# Altium schematic symbol library sch.SCHLIB: 31 symbols
Pins are listed as number, name and electrical type; pins without a type are passive.

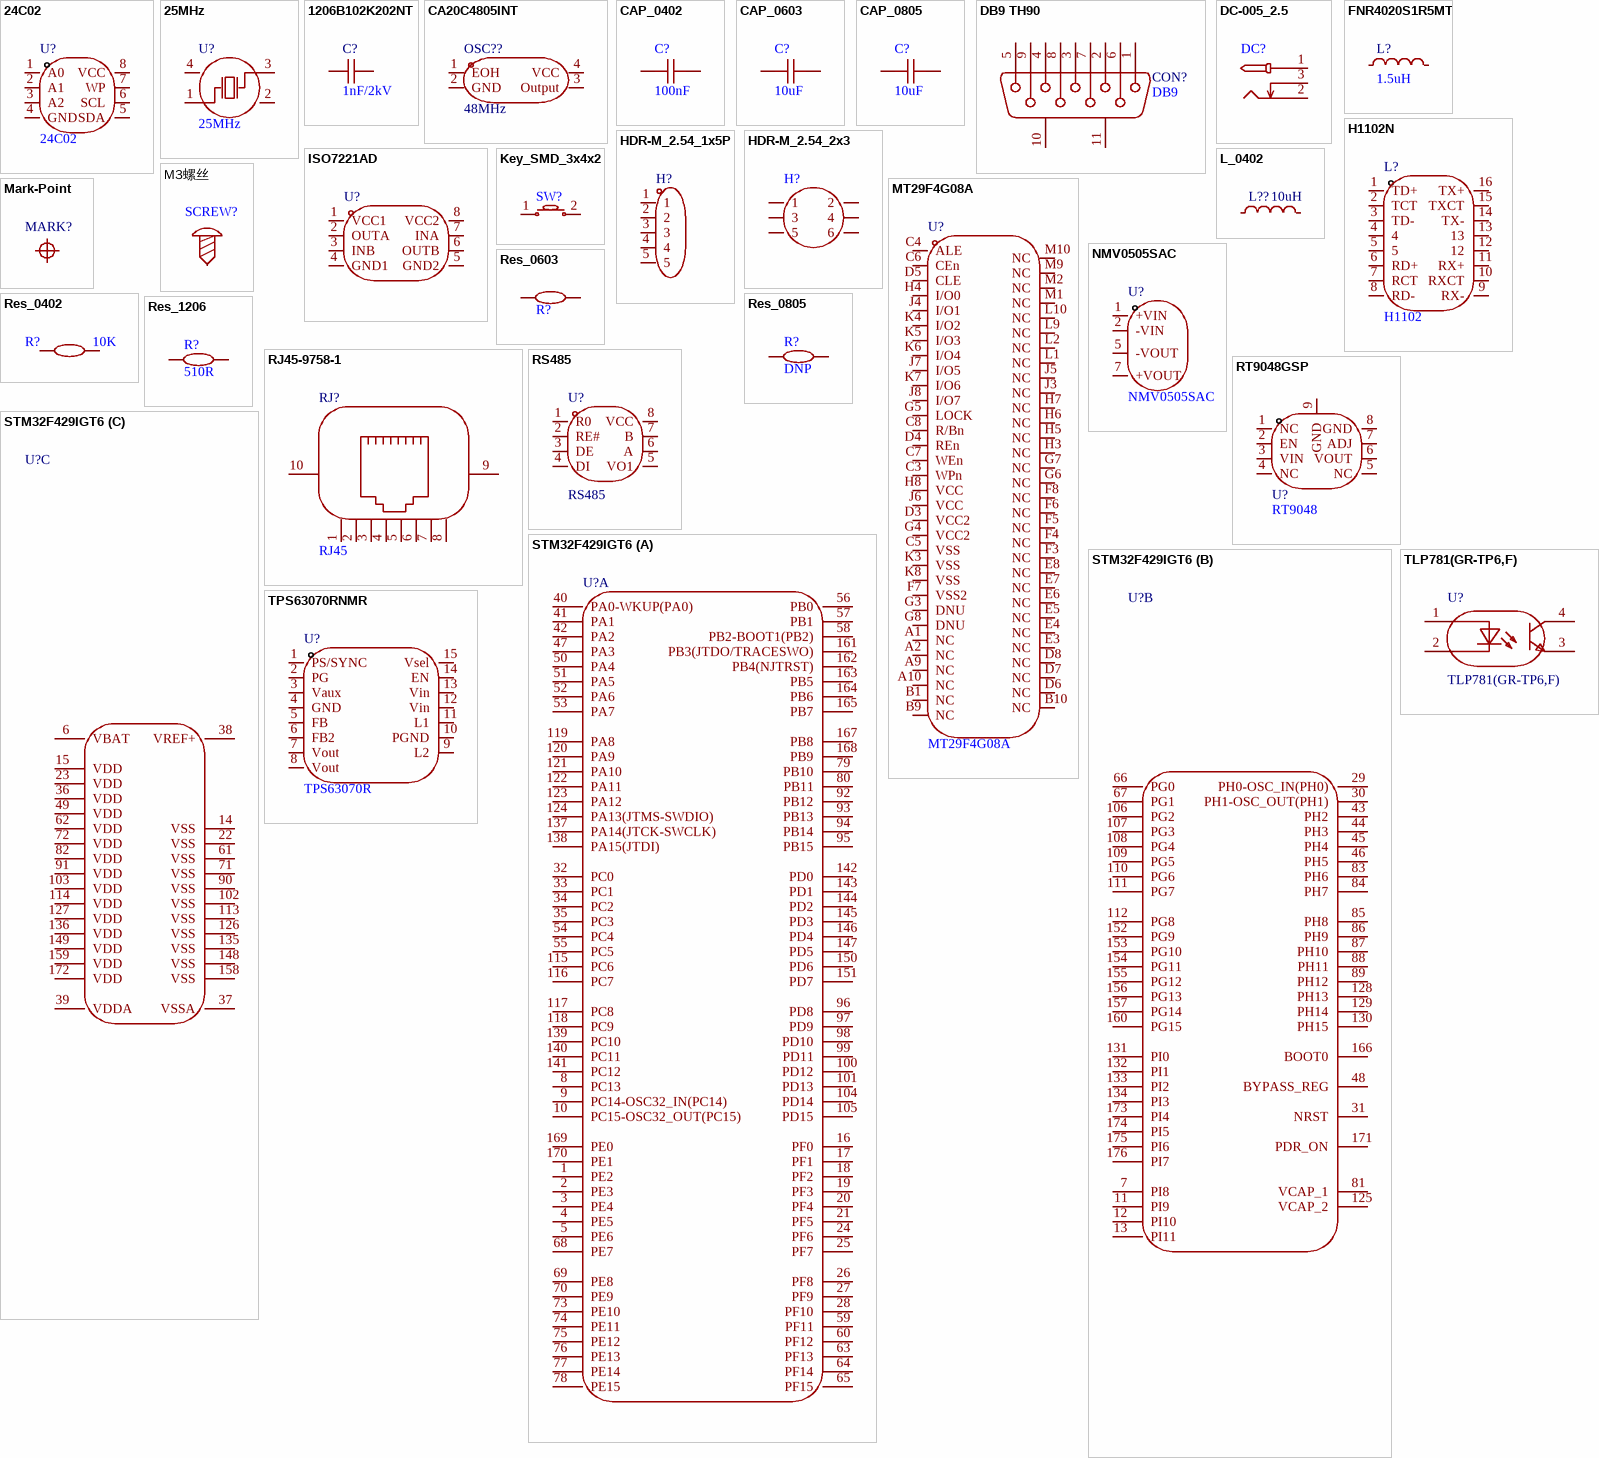
[diagram p0: symbols 24C02 to TPS63070RNMR]

## 24C02
designator U?
Add into BOM: yes; Symbol: 24C02; Device: 24C02; Manufacturer Part: 24C02; Convert to PCB: yes
footprint SOP-8_L4.9-W3.9-P1.27-LS6.0-BL
pins: 1 A0, 2 A1, 3 A2, 4 GND, 5 SDA, 6 SCL, 7 WP, 8 VCC

## 25MHz
designator U?
Add into BOM: yes; Symbol: 25MHZ; Device: 25MHz; Manufacturer Part: 25MHz; Convert to PCB: yes
footprint CRYSTAL-SMD_4P-L3.2-W2.5-TR
pins: 1 OSC1, 2 GND, 3 OSC2, 4 GND

## 1206B102K202NT
designator C?, comment 1nF/2kV
Symbol: 1206B102K202NT; Add into BOM: yes; Device: 1206B102K202NT; Convert to PCB: yes; Value: 1nF/2kV
footprint C1206
pins: 1, 2

## CA20C4805INT
designator OSC??, comment 48MHz
Symbol: CA20C4805INT; Add into BOM: yes; Device: CA20C4805INT; Manufacturer Part: CA20C4805INT; Convert to PCB: yes; Value: 48MHz
footprint OSC-SMD_4P-L2.0-W1.6-BL
pins: 1 EOH, 2 GND, 3 Output, 4 VCC

## CAP_0402
designator C?, comment 100nF
Symbol: CapAcitance; Device: CAP_0402; Convert to PCB: yes; Add into BOM: yes; Value: 100nF
footprint C0402
pins: 1, 2

## CAP_0603
designator C?, comment 10uF
Symbol: CapAcitance; Device: CAP_0603; Convert to PCB: yes; Add into BOM: yes; Value: 10uF
footprint C0603
pins: 1, 2

## CAP_0805
designator C?, comment 10uF
Symbol: CapAcitance; Device: CAP_0805; Convert to PCB: yes; Add into BOM: yes; Value: 10uF
footprint C0805
pins: 1, 2

## DB9 TH90
designator CON?, comment DB9
Symbol: DB9 TH90; Add into BOM: yes; Device: DB9 TH90; Manufacturer Part: DB9; Convert to PCB: yes
footprint DB9-TH_DT10121-M5N3-4F
pins: 1, 2, 3, 4, 5, 6, 7, 8, 9, 10 MH1, 11 MH2

## DC-005_2.5
designator DC?
Symbol: DC-005_2.5; Convert to PCB: yes; Device: DC-005_2.5; Add into BOM: yes
footprint DC-005_2.5
pins: 1 4, 2, 3

## FNR4020S1R5MT
designator L?, comment 1.5uH
Symbol: FNR4020S1R5MT; Add into BOM: yes; Device: FNR4020S1R5MT; Convert to PCB: yes; Value: 1.5uH
footprint IND-SMD_L4.0-W4.0_FNR40XXS
pins: 1, 2

## H1102N
designator L?, comment H1102
Symbol: H1102N; Add into BOM: yes; Device: H1102N; Convert to PCB: yes; Value: H1102
footprint XFMR-SMD_H1102N
pins: 1 TD+, 2 TCT, 3 TD-, 4, 5, 6 RD+, 7 RCT, 8 RD-, 9 RX-, 10 RXCT, 11 RX+, 12, 13, 14 TX-, 15 TXCT, 16 TX+

## HDR-M_2.54_1x5P
designator H?
Symbol: MTP125-1105S1; Device: HDR-M_2.54_1x5P; Convert to PCB: yes; Add into BOM: yes
footprint HDR-TH_5P-P2.54-V-M
pins: 1, 2, 3, 4, 5

## HDR-M_2.54_2x3
designator H?
Symbol: HDR-M-2.54_2x3; Device: HDR-M_2.54_2x3; Convert to PCB: yes; Add into BOM: yes
footprint HDR-TH_6P-P2.54-V-R2-C3-S2.54_A2541WV-2X3P
pins: 1, 2, 3, 4, 5, 6

## ISO7221AD
designator U?
Symbol: ISO7221AD; Add into BOM: yes; Device: ISO7221AD; Convert to PCB: yes
footprint SOIC-8_L5.0-W4.0-P1.27-LS6.0-BL
pins: 1 VCC1, 2 OUTA, 3 INB, 4 GND1, 5 GND2, 6 OUTB, 7 INA, 8 VCC2

## Key_SMD_3x4x2
designator SW?
Symbol: 轻触按键x2; Device: Key_SMD_3x4x2; Convert to PCB: yes; Add into BOM: yes
footprint Key_SMD_3x4x2
pins: 1, 2

## L_0402
designator L??, comment 10uH
Symbol: SDCL1005C10NJTDFM01; Device: L_0402; Add into BOM: yes; Convert to PCB: yes; Value: 10uH
footprint L0402
pins: 1, 2

## M3螺丝
designator SCREW?
Symbol: 螺丝孔; Device: M3螺丝; Convert to PCB: yes; Add into BOM: yes
footprint M3螺丝
pins: 1

## Mark-Point
designator MARK?
Symbol: Mark-Point; Add into BOM: no; Convert to PCB: yes; Device: Mark-Point
footprint Mark-Point-1mm
pins: 1

## MT29F4G08A
designator U?
Add into BOM: yes; Symbol: MT29F4G08A; Device: MT29F4G08A; Manufacturer Part: MT29F4G08A; Convert to PCB: yes
footprint VFBGA-63_L11.0-W9.0-P0.80-BL_MT29F2G08ABAEAH4-IT-E
pins: A1 NC, A2 NC, A9 NC, A10 NC, B1 NC, B9 NC, B10 NC, C3 WPn, C4 ALE, C5 VSS, C6 CEn, C7 WEn, C8 R/Bn, D3 VCC2, D4 REn, D5 CLE, D6 NC, D7 NC, D8 NC, E3 NC, E4 NC, E5 NC, E6 NC, E7 NC, E8 NC, F3 NC, F4 NC, F5 NC, F6 NC, F7 VSS2, F8 NC, G3 DNU, G4 VCC2, G5 LOCK, G6 NC, G7 NC, G8 DNU, H3 NC, H4 I/O0, H5 NC, H6 NC, H7 NC, H8 VCC, J3 NC, J4 I/O1, J5 NC, J6 VCC, J7 I/O5, J8 I/O7, K3 VSS, K4 I/O2, K5 I/O3, K6 I/O4, K7 I/O6, K8 VSS, L1 NC, L2 NC, L9 NC, L10 NC, M1 NC, M2 NC, M9 NC, M10 NC

## NMV0505SAC
designator U?
Add into BOM: yes; Symbol: NMV0505SAC; Device: NMV0505SAC; Manufacturer Part: NMV0505SAC; Convert to PCB: yes
footprint PWRM-TH_4P-L19.5-W6.0-P2.54_NMV0505SAC
pins: 1 +VIN, 2 -VIN, 5 -VOUT, 7 +VOUT

## Res_0402
designator R?, comment 10K
Symbol: 电阻; Device: Res_0402; Convert to PCB: yes; Add into BOM: yes; Value: 10K
footprint R0402
pins: 1, 2

## Res_0603
designator R?, comment 10K  (value not drawn)
Symbol: 电阻; Device: Res_0603; Convert to PCB: yes; Add into BOM: yes; Value: 10K
footprint R0603
pins: 1, 2

## Res_0805
designator R?, comment DNP
Symbol: 电阻; Device: Res_0805; Convert to PCB: yes; Add into BOM: yes; Value: DNP
footprint R0805
pins: 1, 2

## Res_1206
designator R?, comment 510R
Symbol: 电阻; Device: Res_1206; Add into BOM: yes; Convert to PCB: yes; Value: 510R
footprint R1206
pins: 1, 2

## RJ45-9758-1
designator RJ?, comment RJ45
Symbol: RJ45-9758-1; Add into BOM: yes; Device: RJ45-9758-1; Manufacturer Part: RJ45; Convert to PCB: yes
footprint RJ45-TH_R-RJ45R10P-B000-1
pins: 1, 2, 3, 4, 5, 6, 7, 8, 9, 10

## RS485
designator U?  Device: RS485
Add into BOM: yes; Symbol: RS485; Convert to PCB: yes
footprint SOP-8_L4.9-W3.9-P1.27-LS6.0-BL
pins: 1 R0, 2 RE#, 3 DE, 4 DI, 5 VO1, 6 A, 7 B, 8 VCC

## RT9048GSP
designator U?, comment RT9048
Symbol: RT9048GSP; Add into BOM: yes; Device: RT9048GSP; Manufacturer Part: RT9048; Convert to PCB: yes
footprint ESOP-8_L4.9-W3.9-P1.27-LS6.0-BL-EP
pins: 1 NC, 2 EN, 3 VIN, 4 NC, 5 NC, 6 VOUT, 7 ADJ, 8 GND, 9 GND

## STM32F429IGT6
designator U?
Symbol: STM32F429IGT6; Add into BOM: yes; Device: STM32F429IGT6; Convert to PCB: yes
footprint LQFP-176_L24.0-W24.0-P0.50-LS26.0-BL
part A pins: 1 PE2, 2 PE3, 3 PE4, 4 PE5, 5 PE6, 8 PC13, 9 PC14-OSC32_IN(PC14), 10 PC15-OSC32_OUT(PC15), 16 PF0, 17 PF1, 18 PF2, 19 PF3, 20 PF4, 21 PF5, 24 PF6, 25 PF7, 26 PF8, 27 PF9, 28 PF10, 32 PC0, 33 PC1, 34 PC2, 35 PC3, 40 PA0-WKUP(PA0), 41 PA1, 42 PA2, 47 PA3, 50 PA4, 51 PA5, 52 PA6, 53 PA7, 54 PC4, 55 PC5, 56 PB0, 57 PB1, 58 PB2-BOOT1(PB2), 59 PF11, 60 PF12, 63 PF13, 64 PF14, 65 PF15, 68 PE7, 69 PE8, 70 PE9, 73 PE10, 74 PE11, 75 PE12, 76 PE13, 77 PE14, 78 PE15, 79 PB10, 80 PB11, 92 PB12, 93 PB13, 94 PB14, 95 PB15, 96 PD8, 97 PD9, 98 PD10, 99 PD11, 100 PD12, 101 PD13, 104 PD14, 105 PD15, 115 PC6, 116 PC7, 117 PC8, 118 PC9, 119 PA8, 120 PA9, 121 PA10, 122 PA11, 123 PA12, 124 PA13(JTMS-SWDIO), 137 PA14(JTCK-SWCLK), 138 PA15(JTDI), 139 PC10, 140 PC11, 141 PC12, 142 PD0, 143 PD1, 144 PD2, 145 PD3, 146 PD4, 147 PD5, 150 PD6, 151 PD7, 161 PB3(JTDO/TRACESWO), 162 PB4(NJTRST), 163 PB5, 164 PB6, 165 PB7, 167 PB8, 168 PB9, 169 PE0, 170 PE1
part B pins: 7 PI8, 11 PI9, 12 PI10, 13 PI11, 29 PH0-OSC_IN(PH0), 30 PH1-OSC_OUT(PH1), 31 NRST, 43 PH2, 44 PH3, 45 PH4, 46 PH5, 48 BYPASS_REG, 66 PG0, 67 PG1, 81 VCAP_1, 83 PH6, 84 PH7, 85 PH8, 86 PH9, 87 PH10, 88 PH11, 89 PH12, 106 PG2, 107 PG3, 108 PG4, 109 PG5, 110 PG6, 111 PG7, 112 PG8, 125 VCAP_2, 128 PH13, 129 PH14, 130 PH15, 131 PI0, 132 PI1, 133 PI2, 134 PI3, 152 PG9, 153 PG10, 154 PG11, 155 PG12, 156 PG13, 157 PG14, 160 PG15, 166 BOOT0, 171 PDR_ON, 173 PI4, 174 PI5, 175 PI6, 176 PI7
part C pins: 6 VBAT, 14 VSS, 15 VDD, 22 VSS, 23 VDD, 36 VDD, 37 VSSA, 38 VREF+, 39 VDDA, 49 VDD, 61 VSS, 62 VDD, 71 VSS, 72 VDD, 82 VDD, 90 VSS, 91 VDD, 102 VSS, 103 VDD, 113 VSS, 114 VDD, 126 VSS, 127 VDD, 135 VSS, 136 VDD, 148 VSS, 149 VDD, 158 VSS, 159 VDD, 172 VDD

## TLP781(GR-TP6,F)
designator U?  Device: TLP781(GR-TP6,F)
Symbol: TLP781(GR-TP6，F); Add into BOM: yes; Convert to PCB: yes
footprint SOP-4_L6.5-W4.6-P2.54-LS10.3-TL
pins: 1, 2, 3, 4

## TPS63070RNMR
designator U?, comment TPS63070R
Symbol: TPS63070RNMR; Add into BOM: yes; Device: TPS63070RNMR; Manufacturer Part: TPS63070R; Convert to PCB: yes
footprint VQFN-HR-15_L3.0-W2.5-P0.50-BL_TPS63070RNMR
pins: 1 PS/SYNC, 2 PG, 3 Vaux, 4 GND, 5 FB, 6 FB2, 7 Vout, 8 Vout, 9 L2, 10 PGND, 11 L1, 12 Vin, 13 Vin, 14 EN, 15 Vsel

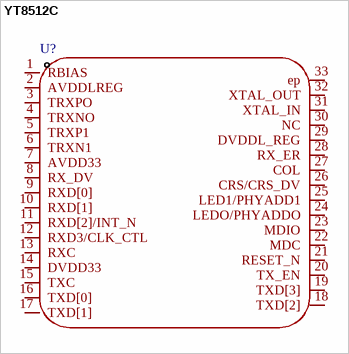
[diagram p1: symbol YT8512C]

## YT8512C
designator U?
Symbol: YT8512C; Add into BOM: yes; Device: YT8512C; Convert to PCB: yes
footprint QFN-32_L5.0-W5.0-P0.50-BL-EP3.4
pins: 1 RBIAS, 2 AVDDLREG, 3 TRXPO, 4 TRXNO, 5 TRXP1, 6 TRXN1, 7 AVDD33, 8 RX_DV, 9 RXD[0], 10 RXD[1], 11 RXD[2]/INT_N, 12 RXD3/CLK_CTL, 13 RXC, 14 DVDD33, 15 TXC, 16 TXD[0], 17 TXD[1], 18 TXD[2], 19 TXD[3], 20 TX_EN, 21 RESET_N, 22 MDC, 23 MDIO, 24 LEDO/PHYADDO, 25 LED1/PHYADD1, 26 CRS/CRS_DV, 27 COL, 28 RX_ER, 29 DVDDL_REG, 30 NC, 31 XTAL_IN, 32 XTAL_OUT, 33 ep